# Altium schematic symbol library ATSAME70Q21A-AN.Schlib: 1 symbol
Pins are listed as number, name and electrical type; pins without a type are passive.

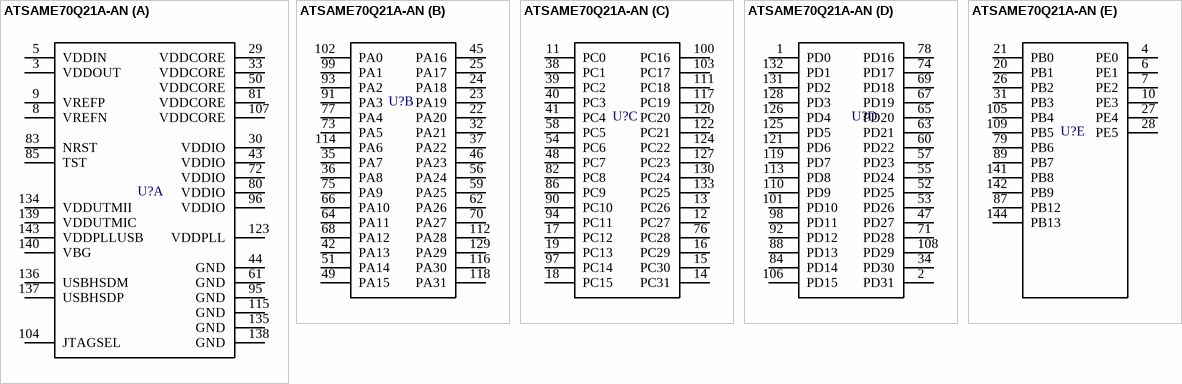
[diagram p0: symbol ATSAME70Q21A-AN]

## ATSAME70Q21A-AN
designator U?  (value not drawn)
Atmel SAM E70 144 pin
part A pins: 3 VDDOUT, 5 VDDIN, 8 VREFN, 9 VREFP, 29 VDDCORE, 30 VDDIO, 33 VDDCORE, 43 VDDIO, 44 GND, 50 VDDCORE, 61 GND, 72 VDDIO, 80 VDDIO, 81 VDDCORE, 83 NRST, 85 TST, 95 GND, 96 VDDIO, 104 JTAGSEL, 107 VDDCORE, 115 GND, 123 VDDPLL, 134 VDDUTMII, 135 GND, 136 USBHSDM, 137 USBHSDP, 138 GND, 139 VDDUTMIC, 140 VBG, 143 VDDPLLUSB
part B pins: 22 PA20, 23 PA19, 24 PA18, 25 PA17, 32 PA21, 35 PA7, 36 PA8, 37 PA22, 42 PA13, 45 PA16, 46 PA23, 49 PA15, 51 PA14, 56 PA24, 59 PA25, 62 PA26, 64 PA11, 66 PA10, 68 PA12, 70 PA27, 73 PA5, 75 PA9, 77 PA4, 91 PA3, 93 PA2, 99 PA1, 102 PA0, 112 PA28, 114 PA6, 116 PA30, 118 PA31, 129 PA29
part C pins: 11 PC0, 12 PC27, 13 PC26, 14 PC31, 15 PC30, 16 PC29, 17 PC12, 18 PC15, 19 PC13, 38 PC1, 39 PC2, 40 PC3, 41 PC4, 48 PC7, 54 PC6, 58 PC5, 76 PC28, 82 PC8, 86 PC9, 90 PC10, 94 PC11, 97 PC14, 100 PC16, 103 PC17, 111 PC18, 117 PC19, 120 PC20, 122 PC21, 124 PC22, 127 PC23, 130 PC24, 133 PC25
part D pins: 1 PD0, 2 PD31, 34 PD30, 47 PD27, 52 PD25, 53 PD26, 55 PD24, 57 PD23, 60 PD22, 63 PD21, 65 PD20, 67 PD19, 69 PD18, 71 PD28, 74 PD17, 78 PD16, 84 PD14, 88 PD13, 92 PD12, 98 PD11, 101 PD10, 106 PD15, 108 PD29, 110 PD9, 113 PD8, 119 PD7, 121 PD6, 125 PD5, 126 PD4, 128 PD3, 131 PD2, 132 PD1
part E pins: 4 PE0, 6 PE1, 7 PE2, 10 PE3, 20 PB1, 21 PB0, 26 PB2, 27 PE4, 28 PE5, 31 PB3, 79 PB6, 87 PB12, 89 PB7, 105 PB4, 109 PB5, 141 PB8, 142 PB9, 144 PB13